# EAGLE library part KTD2026 (library chips)
Constant Current RGB LED Driver with I2C Control
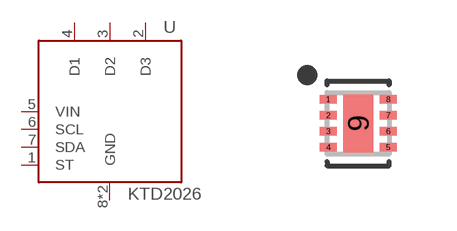
[diagram p114: symbol with the pads of UTDFN-8/1.5MM; footprint UTDFN-8/1.5MM]

Designator prefix U

## KTD2026EWE-TR (MANUFACTURER: Kinetic Technologies; MOUSER: 389-KTD2026EWETR; MPN: KTD2026EWE-TR)  [UTDFN-8/1.5MM]
1  ST
2  D3
3  D2
4  D1
5  VIN
6  SCL
7  SDA
8  GND
9  GND

## Footprint UTDFN-8/1.5MM (pad centres in mm)
8-SON (DFN), 0.40 mm pitch, 1.50 X 1.50 X 0.50 mm body, 1.50 X 0.70 mm thermal pad 8-pin SON (DFN) package with 0.40 mm pitch with body size 1.50 X 1.50 X 0.50 mm and thermal pad size 1.50 X 0.70 mm
smd 0.42 x 0.22: 1 -0.75,0.6; 2 -0.75,0.2; 3 -0.75,-0.2; 4 -0.75,-0.6; 5 0.75,-0.6; 6 0.75,-0.2; 7 0.75,0.2; 8 0.75,0.6
smd 0.75 x 1.45: 9 0,0